# Altium schematic symbol library Custom.SchLib: 4 symbols
Pins are listed as number, name and electrical type; pins without a type are passive.

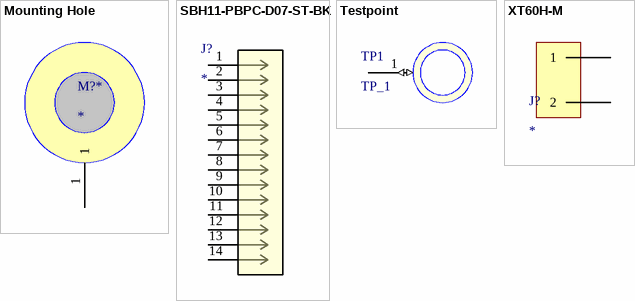
[diagram p0: symbols Mounting Hole to XT60H-M]

## Mounting Hole
designator M?*
footprint Mounting Hole
pins: 1

## SBH11-PBPC-D07-ST-BK
designator J?
No Description Available; Mfr_Name: Sullins; Digi-Key_Part_Number_2: S9170-NDL; Digi-Key_Part_Number_1: S9170-ND; RefDes: RefDes; Type: Type
footprint CONN_SBH11-PBPC-D07-ST-BK_SUL
pins: 1, 2, 3, 4, 5, 6, 7, 8, 9, 10, 11, 12, 13, 14

## Testpoint
designator TP1, comment TP_1  (no BOM)
footprint Testpoint
pins: 1 (io)

## XT60H-M
designator J?
footprint XT60H-M
pins: 1 (power), 2 (power)